# Altium schematic symbol library ADC_Input_Buffering_Items.SchLib: 1 symbol
Pins are listed as number, name and electrical type; pins without a type are passive.

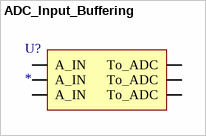
[diagram p0: symbol ADC_Input_Buffering]

## ADC_Input_Buffering
designator U?
pins: A_IN (io), A_IN (io), A_IN (io), To_ADC (io), To_ADC (io), To_ADC (io)